# EAGLE library part MSP430FR5738 (library powerfilm)
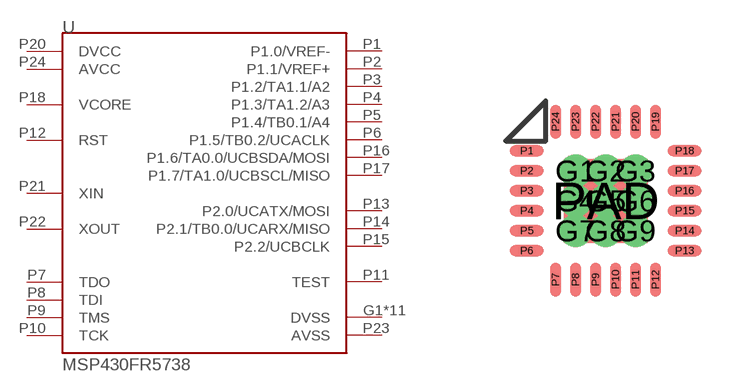
[diagram p0: symbol with the pads of VQFN-24; footprint VQFN-24]

Designator prefix U

## MSP430FR5738 (DIGIKEY: 296-29232-1-ND)  [VQFN-24]
G1  DVSS
G2  DVSS
G3  DVSS
G4  DVSS
G5  DVSS
G6  DVSS
G7  DVSS
G8  DVSS
G9  DVSS
P1  P1.0/VREF-
P2  P1.1/VREF+
P3  P1.2/TA1.1/A2
P4  P1.3/TA1.2/A3
P5  P1.4/TB0.1/A4
P6  P1.5/TB0.2/UCACLK
P7  TDO
P8  TDI
P9  TMS
P10  TCK
P11  TEST
P12  RST
P13  P2.0/UCATX/MOSI
P14  P2.1/TB0.0/UCARX/MISO
P15  P2.2/UCBCLK
P16  P1.6/TA0.0/UCBSDA/MOSI
P17  P1.7/TA1.0/UCBSCL/MISO
P18  VCORE
P19  DVSS
P20  DVCC
P21  XIN
P22  XOUT
P23  AVSS
P24  AVCC
PAD  DVSS

## Footprint VQFN-24 (pad centres in mm)
drill 0.3 pad 0.5: G1 -0.75,0.75; G2 0,0.75; G3 0.75,0.75; G4 -0.75,0; G5 0,0; G6 0.75,0; G7 -0.75,-0.75; G8 0,-0.75; G9 0.75,-0.75
smd 0.85 x 0.28: P1 -1.975,1.25; P2 -1.975,0.75; P3 -1.975,0.25; P4 -1.975,-0.25; P5 -1.975,-0.75; P6 -1.975,-1.25; P13 1.975,-1.25; P14 1.975,-0.75; P15 1.975,-0.25; P16 1.975,0.25; P17 1.975,0.75; P18 1.975,1.25
smd 0.28 x 0.85: P7 -1.25,-1.975; P8 -0.75,-1.975; P9 -0.25,-1.975; P10 0.25,-1.975; P11 0.75,-1.975; P12 1.25,-1.975; P19 1.25,1.975; P20 0.75,1.975; P21 0.25,1.975; P22 -0.25,1.975; P23 -0.75,1.975; P24 -1.25,1.975
smd 2.1 x 2.1: PAD 0,0